# EAGLE library part AS193-73 (library custom)
RF SPDT Switch 0.1-2.5GHz 0.55dB at 2.5 GHz
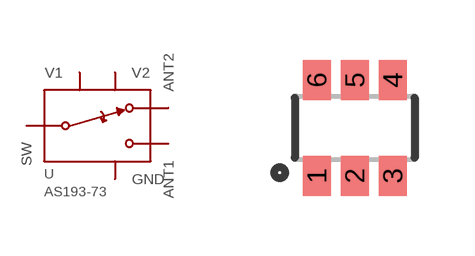
[diagram p45: symbol with the pads of SOT23-6; footprint SOT23-6]

Designator prefix U

## AS193-73  [SOT23-6]
1  ANT1
2  GND
3  ANT2
4  V2
5  SW
6  V1

## Footprint SOT23-6 (pad centres in mm)
smd 0.7 x 1: 1 -0.95,-1.2; 2 0,-1.2; 3 0.95,-1.2; 4 0.95,1.2; 5 0,1.2; 6 -0.95,1.2